# Altium schematic symbol library STLink_V2.SchLib: 6 symbols
Pins are listed as number, name and electrical type; pins without a type are passive.

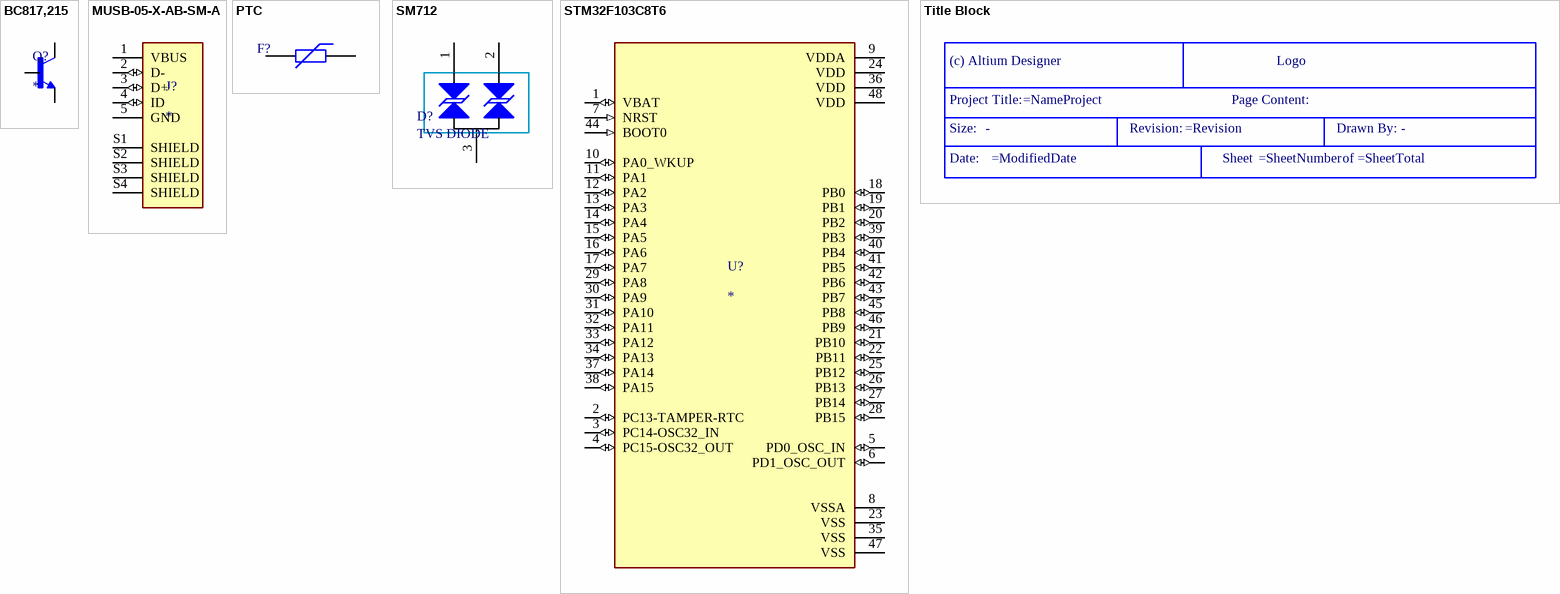
[diagram p0: symbols BC817,215 to Title Block]

## BC817,215
designator Q?
Bipolar (BJT) Transistor NPN 45 V 500 mA 100MHz 250 mW Surface Mount TO-236AB; MF: Nexperia USA Inc.; MP: BC817,215; Price: None; Purchase-URL: https://pricing.snapeda.com/search/part/BC817,215/?ref=eda; Value: *; Availability: In Stock; Package: TO-236-3 Nexperia USA Inc.
footprint SOT95P230X110-3N
pins: 1 B, 2 E, 3 C

## MUSB-05-X-AB-SM-A
designator J?
USB - mini AB Receptacle Connector 5 Position Surface Mount, Right Angle; MF: Samtec; MP: MUSB-05-S-AB-SM-A; Check_prices: https://www.snapeda.com/parts/MUSB-05-S-AB-SM-A/Samtec/view-part/345697/?ref=eda; SnapEDA_Link: https://www.snapeda.com/parts/MUSB-05-S-AB-SM-A/Samtec/view-part/345697/?ref=snap; Price: None; Package: None; Availability: In Stock; Value: *; Purchase-URL: https://pricing.snapeda.com/search/part/MUSB-05-S-AB-SM-A/?ref=eda
footprint SAMTEC_MUSB-05-X-AB-SM-A
pins: 1 VBUS (power), 2 D- (io), 3 D+ (io), 4 ID (io), 5 GND (power), S1 SHIELD, S2 SHIELD, S3 SHIELD, S4 SHIELD

## PTC
designator F?
PTC; Published: 24-Mar-1999; PackageVersion: Mar-2003; PackageReference: 6-0805
footprint PTC-0805
pins: 1, 2

## SM712
designator D?, comment TVS DIODE
footprint SOT-23
pins: 1 K, 2 K, 3 A

## STM32F103C8T6
designator U?
ARM® Cortex®-M3 STM32F1 Microcontroller IC 32-Bit 72MHz 64KB (64K x 8) FLASH 48-LQFP (7x7); MF: STMicroelectronics; MP: STM32F103C8T6; SnapEDA_Link: https://www.snapeda.com/parts/STM32F103C8T6/STMicroelectronics/view-part/?ref=snap; Package: LQFP-48 STMicroelectronics; Value: *; Check_prices: https://www.snapeda.com/parts/STM32F103C8T6/STMicroelectronics/view-part/?ref=eda
footprint QFP50P900X900X160-48N
pins: 1 VBAT (io), 2 PC13-TAMPER-RTC (io), 3 PC14-OSC32_IN (io), 4 PC15-OSC32_OUT (io), 5 PD0_OSC_IN (io), 6 PD1_OSC_OUT (io), 7 NRST (in), 8 VSSA (power), 9 VDDA (power), 10 PA0_WKUP (io), 11 PA1 (io), 12 PA2 (io), 13 PA3 (io), 14 PA4 (io), 15 PA5 (io), 16 PA6 (io), 17 PA7 (io), 18 PB0 (io), 19 PB1 (io), 20 PB2 (io), 21 PB10 (io), 22 PB11 (io), 23 VSS (power), 24 VDD (power), 25 PB12 (io), 26 PB13 (io), 27 PB14 (io), 28 PB15 (io), 29 PA8 (io), 30 PA9 (io), 31 PA10 (io), 32 PA11 (io), 33 PA12 (io), 34 PA13 (io), 35 VSS (power), 36 VDD (power), 37 PA14 (io), 38 PA15 (io), 39 PB3 (io), 40 PB4 (io), 41 PB5 (io), 42 PB6 (io), 43 PB7 (io), 44 BOOT0 (in), 45 PB8 (io), 46 PB9 (io), 47 VSS (power), 48 VDD (power)

## Title Block
designator *  (value not drawn)  (graphical)
Size: -; Drawn By: -
text: (c) Altium Designer; Logo; Project Title:; Page Content:; Size:; Revision:; Drawn By:; Date:; Sheet; of